# Altium footprint library IISP_Header.PcbLib: 1 footprints
Each footprint in its own frame and in the unit in brackets; x right, y up, seen from the top. Pads: shape width x height; smd on the part's side, far side on the other; paste and mask are expansions set on the pad; w line width, h text height; cw(c..) or ccw(c..) is an arc to the next point about the centre after c.
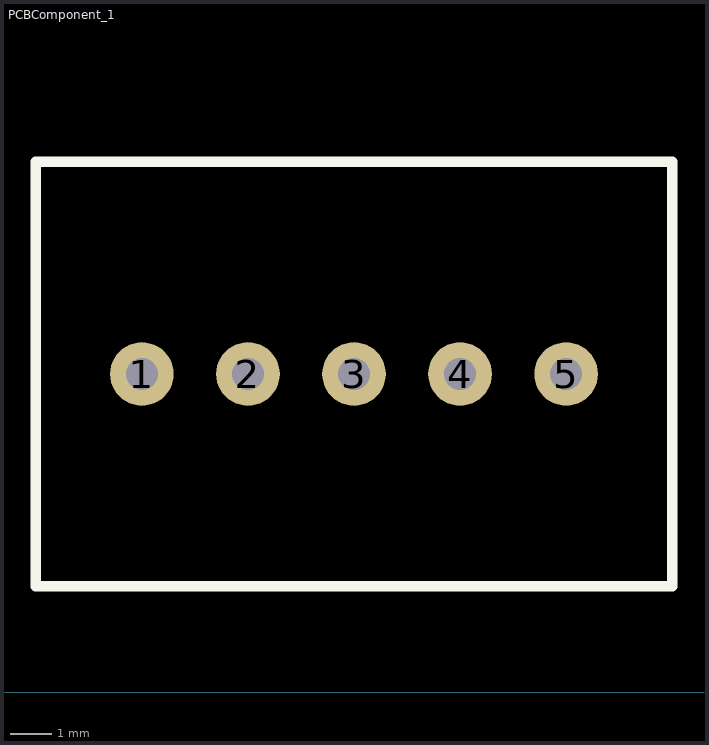
[diagram p0: the footprint, top view; thin cyan lines are the x and y axes]

## PCBComponent_1 [mil]
pads (5):
  round 60 hole 30: 1(600,300) 2(700,300) 3(800,300) 4(900,300) 5(1000,300)
Top Overlay:
  lines w10: 500,100 500,300 500,500 1100,500 1100,100 500,100